# EAGLE library part FTR-110-03-G-D-06 (library ti-tiva)
Connector Header Surface Mount 20 position 0.050" (1.27mm) Samtec
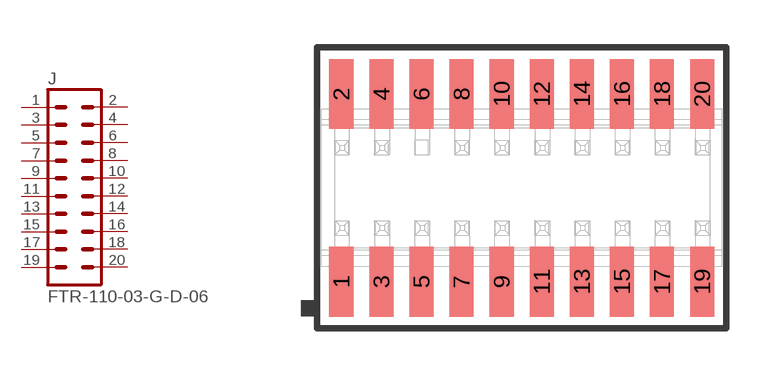
[diagram p6: symbol with the pads of FTR-110-03-G-D-06; footprint FTR-110-03-G-D-06]

Designator prefix J

## FTR-110-03-G-D-06  [FTR-110-03-G-D-06]
1  1  pas
2  2  pas
3  3  pas
4  4  pas
5  5  pas
6  6  pas
7  7  pas
8  8  pas
9  9  pas
10  10  pas
11  11  pas
12  12  pas
13  13  pas
14  14  pas
15  15  pas
16  16  pas
17  17  pas
18  18  pas
19  19  pas
20  20  pas

## Footprint FTR-110-03-G-D-06 (pad centres in mm)
HEADER - Samtec Surface Mount 20 position 0.050" (1.27mm)
smd 0.762 x 2.21: 1 -5.715,-2.972; 2 -5.715,2.972; 3 -4.445,-2.972; 4 -4.445,2.972; 5 -3.175,-2.972; 6 -3.175,2.972; 7 -1.905,-2.972; 8 -1.905,2.972; 9 -0.635,-2.972; 10 -0.635,2.972; 11 0.635,-2.972; 12 0.635,2.972; 13 1.905,-2.972; 14 1.905,2.972; 15 3.175,-2.972; 16 3.175,2.972; 17 4.445,-2.972; 18 4.445,2.972; 19 5.715,-2.972; 20 5.715,2.972